# EAGLE library part POWER_BRICK_CONNECTORS(2X6) (library PDB_TO_BRICKS)
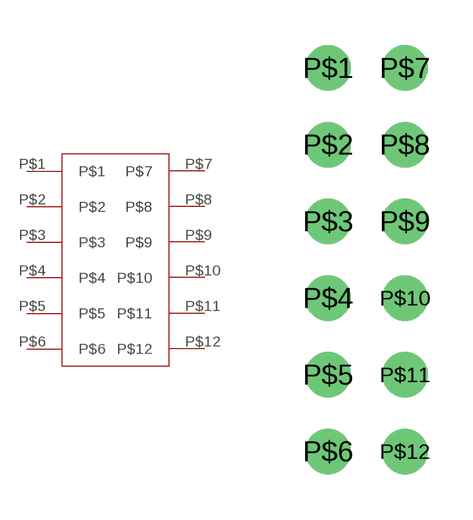
[diagram p0: symbol with the pads of POWER_BRICK_CONNECTORS(2X6); footprint POWER_BRICK_CONNECTORS(2X6)]

Designator prefix -

## POWER_BRICK_CONNECTORS(2X6)  [POWER_BRICK_CONNECTORS(2X6)]
P$1  P$1
P$2  P$2
P$3  P$3
P$4  P$4
P$5  P$5
P$6  P$6
P$7  P$7
P$8  P$8
P$9  P$9
P$10  P$10
P$11  P$11
P$12  P$12

## Footprint POWER_BRICK_CONNECTORS(2X6) (pad centres in mm)
drill 1: P$1 -1.27,6.35; P$2 -1.27,3.81; P$3 -1.27,1.27; P$4 -1.27,-1.27; P$5 -1.27,-3.81; P$6 -1.27,-6.35; P$7 1.27,6.35; P$8 1.27,3.81; P$9 1.27,1.27; P$10 1.27,-1.27; P$11 1.27,-3.81; P$12 1.27,-6.35